# EAGLE library part MFF2_SIM (library Deegou_IC)
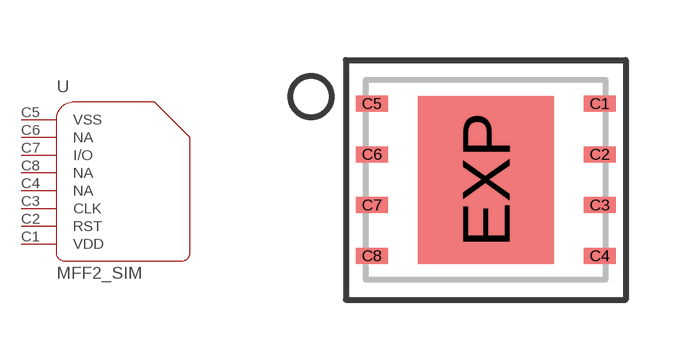
[diagram p117: symbol with the pads of MFF2-SIM; footprint MFF2-SIM]

Designator prefix U

## MFF2_SIM  [MFF2-SIM]
C1  VDD
C2  RST
C3  CLK
C4  NA
C5  VSS
C6  NA
C7  I/O
C8  NA

## Footprint MFF2-SIM (pad centres in mm)
smd 0.8 x 0.4: C1 2.85,1.905; C2 2.85,0.635; C3 2.85,-0.635; C4 2.85,-1.905; C5 -2.85,1.905; C6 -2.85,0.635; C7 -2.85,-0.635; C8 -2.85,-1.905
smd 3.4 x 4.2: EXP 0,0